# EAGLE library part CS5343 (library armlab)
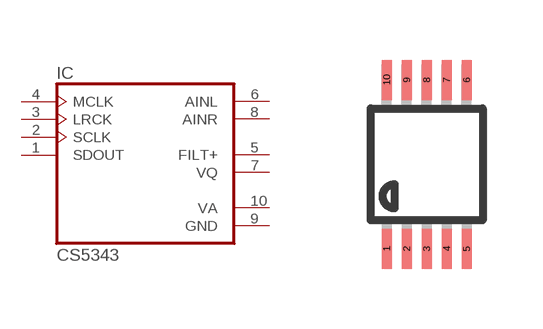
[diagram p2: symbol with the pads of MSOP10; footprint MSOP10]

Designator prefix IC

## CS5343  [MSOP10]
1  SDOUT  out
2  SCLK
3  LRCK
4  MCLK  in
5  FILT+  pwr
6  AINL  in
7  VQ  pwr
8  AINR  in
9  GND  pwr
10  VA  pwr

## Footprint MSOP10 (pad centres in mm)
10-Lead Mini Small Outline Package [MSOP] (RM-10) Source: http://www.analog.com/UploadedFiles/Data_Sheets/35641221898805SSM2167_b.pdf COMPLIANT TO JEDEC STANDARDS MO-187BA
smd 0.25 x 1: 1 -1,-2.113; 2 -0.5,-2.113; 3 0,-2.113; 4 0.5,-2.113; 5 1,-2.113; 6 1,2.113; 7 0.5,2.113; 8 0,2.113; 9 -0.5,2.113; 10 -1,2.113